# Altium footprint library MaUWB_DW3000.PcbLib: 2 footprints
Each footprint in its own frame and in the unit in brackets; x right, y up, seen from the top. Pads: shape width x height; smd on the part's side, far side on the other; paste and mask are expansions set on the pad; w line width, h text height; cw(c..) or ccw(c..) is an arc to the next point about the centre after c.
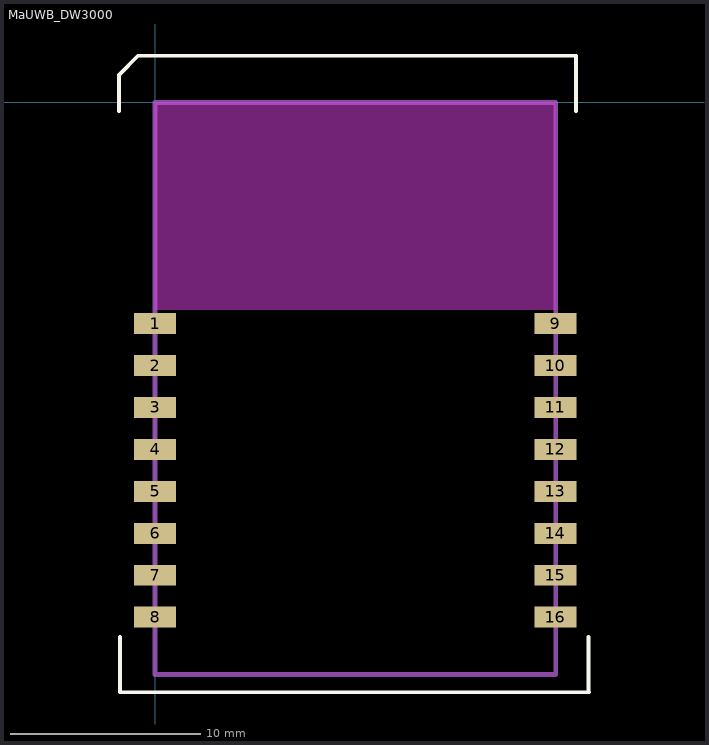
[diagram p0: the footprints below, top view; thin cyan lines are the x and y axes]

## MaUWB_DW3000 [mm]
pads (16):
  rect 2.2x1.1 smd: 1(0,-11.6) 2(0,-13.8) 3(0,-16) 4(0,-18.2) 5(0,-20.4) 6(0,-22.6) 7(0,-24.8) 8(0,-27) 9(21,-11.6) 10(21,-13.8) 11(21,-16) 12(21,-18.2) 13(21,-20.4) 14(21,-22.6) 15(21,-24.8) 16(21,-27)
Top Overlay:
  lines w0.2: -1.889,-0.454 -1.889,1.446 -0.889,2.446 20.111,2.446 ; -1.847,-28.034 -1.847,-30.934 19.857,-30.934 ; 0.757,-30.934 22.757,-30.934 ; 1.011,2.446 22.011,2.446 ; 22.072,-0.454 22.072,2.446 ; 22.733,-30.934 22.733,-28.034
Keep-Out Layer:
  rectangle: 0,-10.883 21,0
Mechanical 1:
  lines w0.254: 21,-30 0,-30 0,0 21,0 ; 21.013,-30 21.013,0

## PCBComponent_1 [mm]